# EAGLE library part 5-534237-8 (library Podkładka.pod.kubek.1_Bartosz.Kępa)
CONN RCPT 10POS 0.1 GOLD PCB Manufacturer's datasheet <https://www.te.com/commerce/DocumentDelivery/DDEController?Action=srchrtrv&DocNm=534237&DocType=Customer+Drawing&DocLang=English>
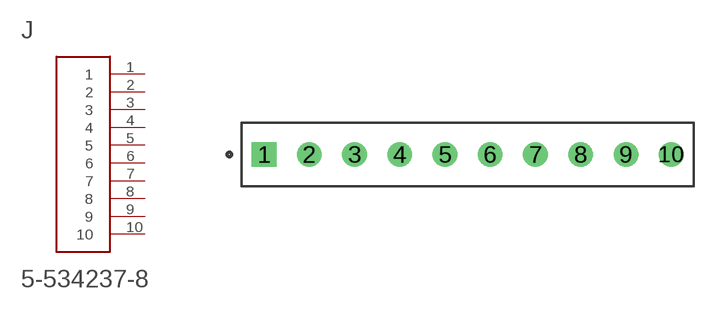
[diagram p1: symbol with the pads of 5-534237-8; footprint 5-534237-8]

Designator prefix J

## 5-534237-8 (CREATED_BY: PCBLayout.com; DIGIKEY_PART_NUMBER: A32910-ND; MANUFACTURER: TE Connectivity AMP Connectors; MPN: 5-534237-8)  [5-534237-8]
1  1  pas
2  2  pas
3  3  pas
4  4  pas
5  5  pas
6  6  pas
7  7  pas
8  8  pas
9  9  pas
10  10  pas

## Footprint 5-534237-8 (pad centres in mm)
drill 0.88 square: 1 -11.43,0
drill 0.88: 2 -8.89,0; 3 -6.35,0; 4 -3.81,0; 5 -1.27,0; 6 1.27,0; 7 3.81,0; 8 6.35,0; 9 8.89,0; 10 11.43,0